# EAGLE library part PA340CC (library bodger)
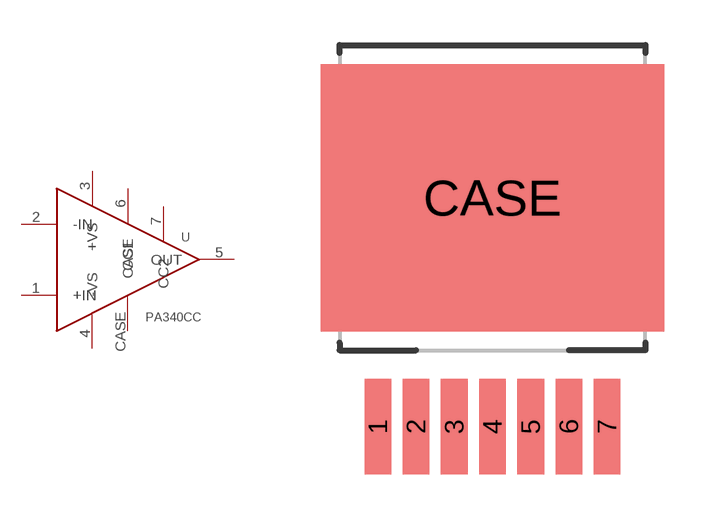
[diagram p6: symbol with the pads of DDPAK7; footprint DDPAK7]

Designator prefix -

## PA340CC  [DDPAK7]
1  +IN
2  -IN
3  +VS
4  -VS
5  OUT
6  CC1
7  CC2
CASE  CASE

## Footprint DDPAK7 (pad centres in mm)
smd 0.889 x 3.175: 1 -3.81,-5.08; 2 -2.54,-5.08; 3 -1.27,-5.08; 4 0,-5.08; 5 1.27,-5.08; 6 2.54,-5.08; 7 3.81,-5.08
smd 11.43 x 8.89: CASE 0,2.54